# EAGLE library part ADXL345 (library ERIC)
Digital Accelerometer
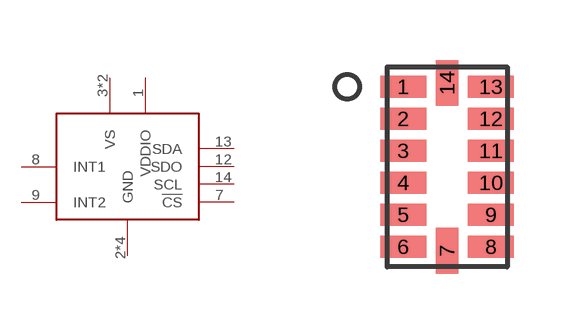
[diagram p30: symbol with the pads of ADXL345; footprint ADXL345]

Designator prefix -

## ADXL345  [ADXL345]
1  VDDIO  pwr
2  GND
3  VS  pwr
4  GND
5  GND
6  VS  pwr
7  !CS  in
8  INT1  out
9  INT2  out
11  GND
12  SDO  out
13  SDA  in
14  SCL  in

## Footprint ADXL345 (pad centres in mm)
Analog Devices ADXL345 Digital Accelerometer
smd 1.145 x 0.55: 1 -1.097,2; 2 -1.097,1.2; 3 -1.097,0.4; 4 -1.097,-0.4; 5 -1.097,-1.2; 6 -1.097,-2; 8 1.097,-2; 9 1.097,-1.2; 10 1.097,-0.4; 11 1.097,0.4; 12 1.097,1.2; 13 1.097,2
smd 0.55 x 1.145: 7 0,-2.098; 14 0,2.098